# Altium footprint library DDS1.PcbLib: 136 footprints (part 5 of 9)
Each footprint in its own frame and in the unit in brackets; x right, y up, seen from the top. Pads: shape width x height; smd on the part's side, far side on the other; paste and mask are expansions set on the pad; w line width, h text height; cw(c..) or ccw(c..) is an arc to the next point about the centre after c.
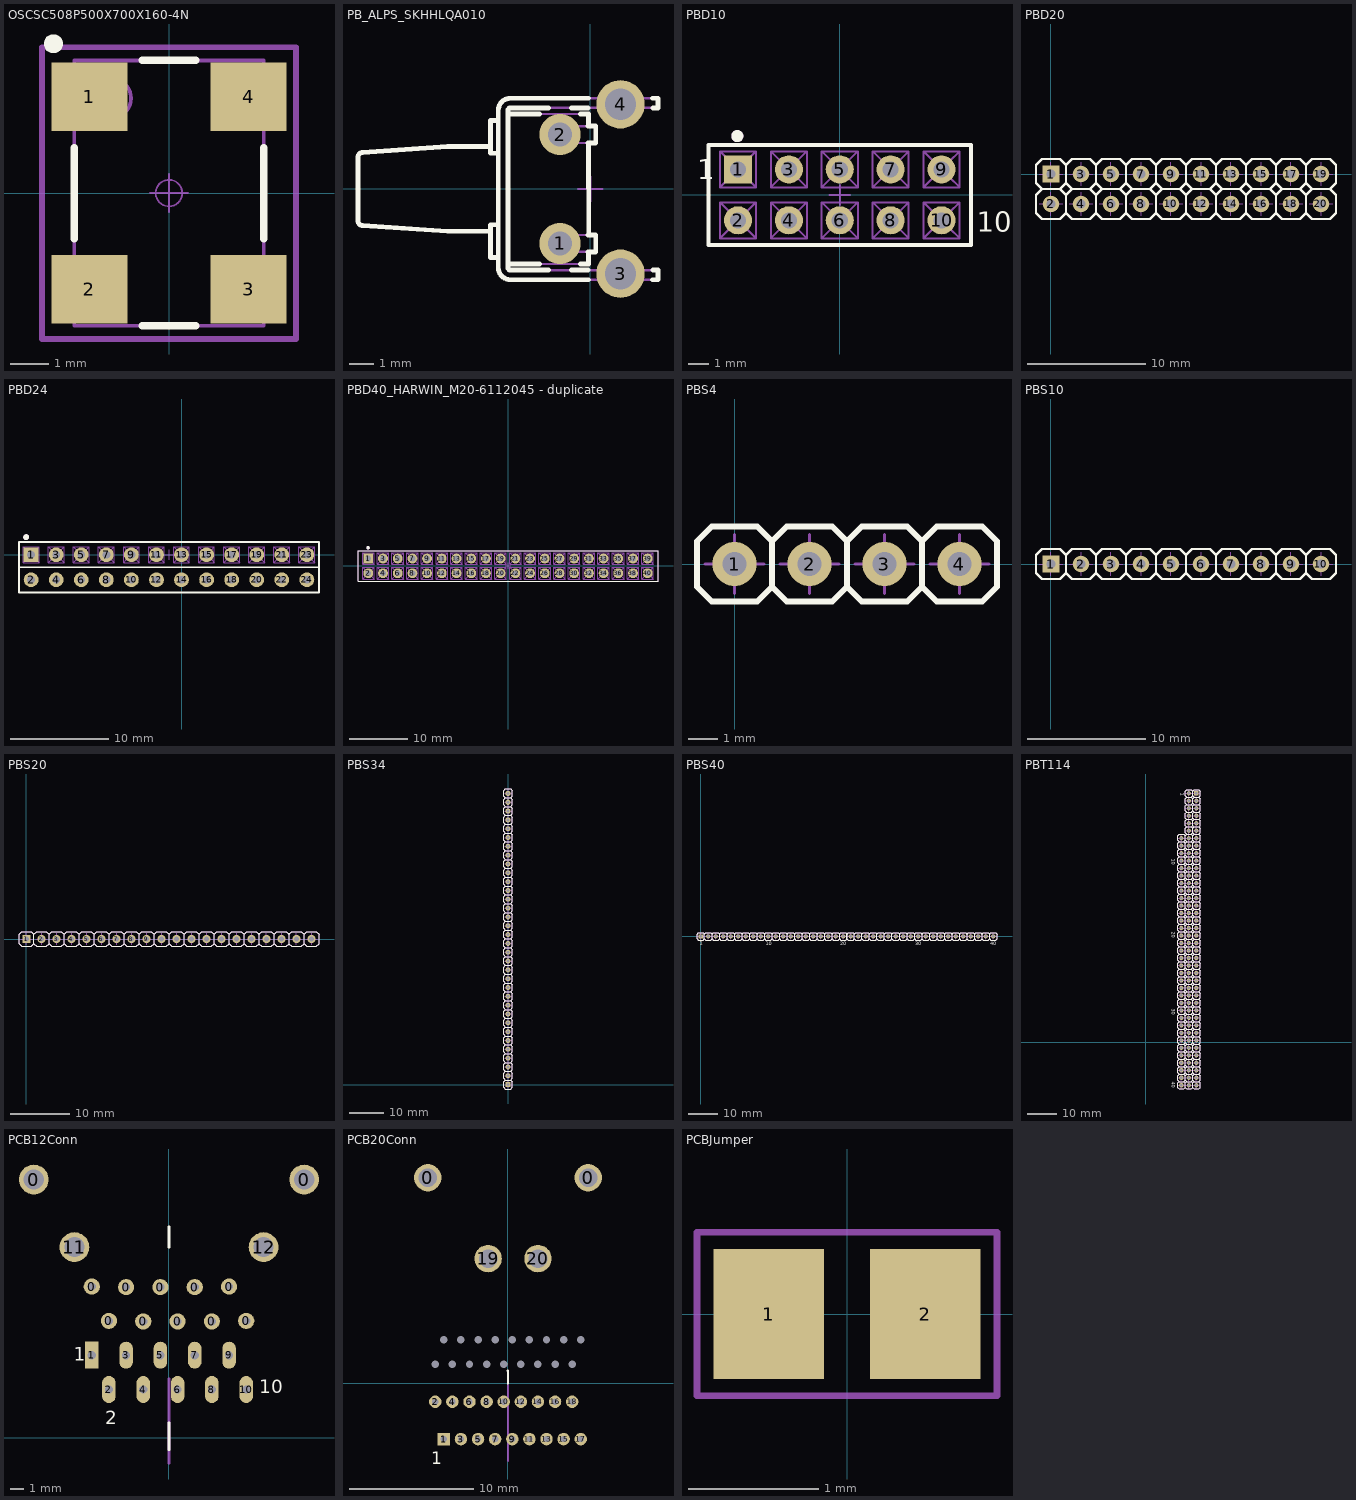
[diagram p4: the footprints below, top view; thin cyan lines are the x and y axes]

## OSCSC508P500X700X160-4N [mm] "SMD Oscillator, side convave, 4 pins, 5.00x7.00mm"
height 1.6
pads (4):
  rect 2x1.8 smd: 1(-2.1,2.54) 2(-2.1,-2.54) 3(2.1,-2.54) 4(2.1,2.54)
Top Overlay:
  circle w0.25: c-3.05,3.94 r0.125
  lines w0.2: -2.5,-1.2 -2.5,1.2 ; -0.7,-3.5 0.7,-3.5 ; -0.7,3.5 0.7,3.5 ; 2.5,-1.2 2.5,1.2
Mechanical 8:
  lines w0.15: -3.35,-3.85 3.35,-3.85 3.35,3.85 -3.35,3.85 -3.35,-3.85
  text ".Designator" at -2.875,-0.25 h1
Mechanical 14:
  circle w0.1: c-1.5,2.5 r0.5
  lines w0.1: -2.5,-3.5 2.5,-3.5 2.5,3.5 -2.5,3.5 -2.5,-3.5
Mechanical 15:
  circle w0.05: c0,0 r0.35
  lines w0.05: -0.5,0 0.5,0 ; 0,-0.5 0,0.5 ; -3.35,-3.85 3.35,-3.85 3.35,3.85 -3.35,3.85 -3.35,-3.85
3D body "OSCSC508P500X700X160-4N.stp": height 1.6, standoff 0, extent -2.6,-3.6 2.6,3.6

## PB_ALPS_SKHHLQA010 [mm] "Body 6x6mm, Stem height 8.35mm, Horizontal Pushbutton Switch, ALPS Serie SKHH"
height 7.4
pads (4):
  round 1.7 hole 1: 1(-1.25,-2.25) 2(-1.25,2.25)
  round 2 hole 1.3: 3(1.25,-3.5) 4(1.25,3.5)
Top Overlay:
  lines w0.2: -4.12,-1.748 -5.9,-1.748 -9.413,-1.513 cw(c-9.4,-1.313) -9.6,-1.313 -9.6,1.313 cw(c-9.4,1.313) -9.413,1.513 -5.9,1.75 -4.12,1.75 ; -3.8,-2.825 -4.12,-2.825 -4.12,-1.475 -3.8,-1.475 ; -3.8,1.475 -4.12,1.475 -4.12,2.825 -3.8,2.825 ; -3.4,-3.1 -2.097,-3.1 ; -3.4,3.1 -2.097,3.1 ; -1.73,-3.35 -3.3,-3.35 cw(c-3.3,-3.25) -3.4,-3.25 -3.4,3.25 cw(c-3.3,3.25) -3.3,3.35 -1.73,3.35 ; -0.77,-3.35 -0.092,-3.35 ; -0.77,3.35 -0.092,3.35 ; -0.403,-3.1 -0.07,-3.1 -0.07,-2.6 ; -0.403,3.1 -0.07,3.1 -0.07,2.6 ; -0.102,-2.6 0.23,-2.6 0.23,-1.9 -0.102,-1.9 ; -0.102,1.9 0.23,1.9 0.23,2.6 -0.102,2.6 ; -0.077,-3.75 -3.3,-3.75 cw(c-3.3,-3.25) -3.8,-3.25 -3.8,3.25 cw(c-3.3,3.25) -3.3,3.75 -0.077,3.75 ; -0.068,1.9 -0.06,-1.9 ; 2.577,-3.75 2.8,-3.75 2.8,-3.35 2.592,-3.35 ; 2.577,3.75 2.8,3.75 2.8,3.35 2.592,3.35
Mechanical 8:
  lines w0.1: -1.75,-2.25 -1.25,-2.25 ; -1.75,2.25 -1.25,2.25 ; -1.25,-2.75 -1.25,-2.25 ; -1.25,-1.75 -1.25,-2.25 ; -1.25,1.75 -1.25,2.25 ; -1.25,2.75 -1.25,2.25 ; -0.75,-2.25 -1.25,-2.25 ; -0.75,2.25 -1.25,2.25 ; -0.5,0 0,0 ; 0,-0.5 0,0 ; 0,0.5 0,0 ; 0.5,0 0,0 ; 0.75,-3.5 1.25,-3.5 ; 0.75,3.5 1.25,3.5 ; 1.25,-4 1.25,-3.5 ; 1.25,-3 1.25,-3.5 ; 1.25,3 1.25,3.5 ; 1.25,4 1.25,3.5 ; 1.75,-3.5 1.25,-3.5 ; 1.75,3.5 1.25,3.5
Mechanical 14:
  lines w0.1: -4.12,-1.748 -5.9,-1.748 -9.413,-1.513 cw(c-9.4,-1.313) -9.6,-1.313 -9.6,1.313 cw(c-9.4,1.313) -9.413,1.513 -5.9,1.75 -4.12,1.75 ; -3.8,-2.825 -4.12,-2.825 -4.12,-1.475 -3.8,-1.475 ; -3.8,1.475 -4.12,1.475 -4.12,2.825 -3.8,2.825 ; -3.4,-3.1 -0.07,-3.1 -0.07,-2.6 ; -3.4,3.1 -0.07,3.1 -0.07,2.6 ; -0.068,1.9 -0.06,-1.9 ; -3.8,-3.25 ccw(c-3.3,-3.25) -3.3,-3.75 2.8,-3.75 2.8,-3.35 -3.3,-3.35 cw(c-3.3,-3.25) -3.4,-3.25 -3.4,3.25 cw(c-3.3,3.25) -3.3,3.35 2.8,3.35 2.8,3.75 -3.3,3.75 ccw(c-3.3,3.25) -3.8,3.25 -3.8,-3.25 ; -1.4,-2.6 -1.396,-1.9 0.23,-1.9 0.23,-2.6 -1.4,-2.6 ; -1.4,2.6 0.23,2.6 0.23,1.9 -1.396,1.9 -1.4,2.6
3D body "PB_ALPS_SKHHLQA010.stp": height 7.4, standoff -3.5, extent -9.6,-4.249 2.8,4.249

## PBD10 [mm] "10 Contacts, Pitch 2.54mm - Top Entry, Dual Row, Through Mount Socket"
height 8.5
pads (10):
  rect 1.4x1.4 hole 0.8: 1(-5.08,1.27)
  round 1.4 hole 0.8: 2(-5.08,-1.27) 3(-2.54,1.27) 4(-2.54,-1.27) 5(0,1.27) 6(0,-1.27) 7(2.54,1.27) 8(2.54,-1.27) 9(5.08,1.27) 10(5.08,-1.27)
Top Overlay:
  circle w0.3: c-5.115,2.935 r0.15
  lines w0.2: -6.55,-2.5 6.55,-2.5 6.55,2.5 -6.55,2.5 -6.55,-2.5
  text "1" at -7.127,0.772 h1
  text "10" at 6.85,-1.85 h1
Mechanical 8:
  lines w0.1: -5.58,-1.27 -5.08,-1.27 ; -5.58,1.27 -5.08,1.27 ; -5.08,-1.77 -5.08,-1.27 ; -5.08,-0.77 -5.08,-1.27 ; -5.08,0.77 -5.08,1.27 ; -5.08,1.77 -5.08,1.27 ; -4.58,-1.27 -5.08,-1.27 ; -4.58,1.27 -5.08,1.27 ; -3.04,-1.27 -2.54,-1.27 ; -3.04,1.27 -2.54,1.27 ; -2.54,-1.77 -2.54,-1.27 ; -2.54,-0.77 -2.54,-1.27 ; -2.54,0.77 -2.54,1.27 ; -2.54,1.77 -2.54,1.27 ; -2.04,-1.27 -2.54,-1.27 ; -2.04,1.27 -2.54,1.27 ; -0.5,-1.27 0,-1.27 ; -0.5,0 0,0 ; -0.5,1.27 0,1.27 ; 0,-1.77 0,-1.27 ; 0,-0.77 0,-1.27 ; 0,-0.5 0,0 ; 0,0.5 0,0 ; 0,0.77 0,1.27 ; 0,1.77 0,1.27 ; 0.5,-1.27 0,-1.27 ; 0.5,0 0,0 ; 0.5,1.27 0,1.27 ; 2.04,-1.27 2.54,-1.27 ; 2.04,1.27 2.54,1.27 ; 2.54,-1.77 2.54,-1.27 ; 2.54,-0.77 2.54,-1.27 ; 2.54,0.77 2.54,1.27 ; 2.54,1.77 2.54,1.27 ; 3.04,-1.27 2.54,-1.27 ; 3.04,1.27 2.54,1.27 ; 4.58,-1.27 5.08,-1.27 ; 4.58,1.27 5.08,1.27 ; 5.08,-1.77 5.08,-1.27 ; 5.08,-0.77 5.08,-1.27 ; 5.08,0.77 5.08,1.27 ; 5.08,1.77 5.08,1.27 ; 5.58,-1.27 5.08,-1.27 ; 5.58,1.27 5.08,1.27
Mechanical 14:
  circle w0.3: c-5.115,2.935 r0.15
  lines w0.1: -5.48,-0.873 -5.98,-0.37 ; -5.48,1.667 -5.98,2.17 ; -2.94,-0.873 -3.44,-0.37 ; -2.94,1.667 -3.44,2.17 ; -0.4,-0.873 -0.9,-0.37 ; -0.4,1.667 -0.9,2.17 ; 2.14,-0.873 1.64,-0.37 ; 2.14,1.667 1.64,2.17 ; 4.68,-0.873 4.18,-0.37 ; 4.68,1.667 4.18,2.17 ; -5.98,-2.17 -5.48,-1.67 ; -5.98,-2.17 -4.18,-2.17 ; -5.98,-2.17 -5.98,-0.37 ; -5.98,-0.37 -4.18,-0.37 ; -5.98,0.37 -5.48,0.87 ; -5.98,0.37 -4.18,0.37 ; -5.98,0.37 -5.98,2.17 ; -5.98,2.17 -4.18,2.17 ; -5.48,-1.67 -5.48,-0.87 -4.68,-0.87 ; -5.48,-1.67 -4.68,-1.67 ; -5.48,0.87 -5.48,1.67 -4.68,1.67 ; -5.48,0.87 -4.68,0.87 ; -4.68,-1.67 -4.68,-0.87 ; -4.68,-1.67 -4.18,-2.17 ; -4.68,-0.87 -4.18,-0.37 ; -4.68,0.87 -4.68,1.67 ; -4.68,0.87 -4.18,0.37 ; -4.68,1.67 -4.18,2.17 ; -4.18,-2.17 -4.18,-0.37 ; -4.18,0.37 -4.18,2.17 ; -3.44,-2.17 -2.94,-1.67 ; -3.44,-2.17 -1.64,-2.17 ; -3.44,-2.17 -3.44,-0.37 ; -3.44,-0.37 -1.64,-0.37 ; -3.44,0.37 -2.94,0.87 ; -3.44,0.37 -1.64,0.37 ; -3.44,0.37 -3.44,2.17 ; -3.44,2.17 -1.64,2.17 ; -2.94,-1.67 -2.94,-0.87 -2.14,-0.87 ; -2.94,-1.67 -2.14,-1.67 ; -2.94,0.87 -2.94,1.67 -2.14,1.67 ; -2.94,0.87 -2.14,0.87 ; -2.14,-1.67 -2.14,-0.87 ; -2.14,-1.67 -1.64,-2.17 ; -2.14,-0.87 -1.64,-0.37 ; -2.14,0.87 -2.14,1.67 ; -2.14,0.87 -1.64,0.37 ; -2.14,1.67 -1.64,2.17 ; -1.64,-2.17 -1.64,-0.37 ; -1.64,0.37 -1.64,2.17 ; -0.9,-2.17 -0.4,-1.67 ; -0.9,-2.17 0.9,-2.17 ; -0.9,-2.17 -0.9,-0.37 ; -0.9,-0.37 0.9,-0.37 ; -0.9,0.37 -0.4,0.87 ; -0.9,0.37 0.9,0.37 ; -0.9,0.37 -0.9,2.17 ; -0.9,2.17 0.9,2.17 ; -0.4,-1.67 -0.4,-0.87 0.4,-0.87 ; -0.4,-1.67 0.4,-1.67 ; -0.4,0.87 -0.4,1.67 0.4,1.67 ; -0.4,0.87 0.4,0.87 ; 0.4,-1.67 0.4,-0.87 ; 0.4,-1.67 0.9,-2.17 ; 0.4,-0.87 0.9,-0.37 ; 0.4,0.87 0.4,1.67 ; 0.4,0.87 0.9,0.37 ; 0.4,1.67 0.9,2.17 ; 0.9,-2.17 0.9,-0.37 ; 0.9,0.37 0.9,2.17 ; 1.64,-2.17 2.14,-1.67 ; 1.64,-2.17 3.44,-2.17 ; 1.64,-2.17 1.64,-0.37 ; 1.64,-0.37 3.44,-0.37 ; 1.64,0.37 2.14,0.87 ; 1.64,0.37 3.44,0.37 ; 1.64,0.37 1.64,2.17 ; 1.64,2.17 3.44,2.17 ; 2.14,-1.67 2.14,-0.87 2.94,-0.87 ; 2.14,-1.67 2.94,-1.67 ; 2.14,0.87 2.14,1.67 2.94,1.67 ; 2.14,0.87 2.94,0.87 ; 2.94,-1.67 2.94,-0.87 ; 2.94,-1.67 3.44,-2.17 ; 2.94,-0.87 3.44,-0.37 ; 2.94,0.87 2.94,1.67 ; 2.94,0.87 3.44,0.37 ; 2.94,1.67 3.44,2.17 ; 3.44,-2.17 3.44,-0.37 ; 3.44,0.37 3.44,2.17 ; 4.18,-2.17 4.68,-1.67 ; 4.18,-2.17 5.98,-2.17 ; 4.18,-2.17 4.18,-0.37 ; 4.18,-0.37 5.98,-0.37 ; 4.18,0.37 4.68,0.87 ; 4.18,0.37 5.98,0.37 ; 4.18,0.37 4.18,2.17 ; 4.18,2.17 5.98,2.17 ; 4.68,-1.67 4.68,-0.87 5.48,-0.87 ; 4.68,-1.67 5.48,-1.67 ; 4.68,0.87 4.68,1.67 5.48,1.67 ; 4.68,0.87 5.48,0.87 ; 5.48,-1.67 5.48,-0.87 ; 5.48,-1.67 5.98,-2.17 ; 5.48,-0.87 5.98,-0.37 ; 5.48,0.87 5.48,1.67 ; 5.48,0.87 5.98,0.37 ; 5.48,1.67 5.98,2.17 ; 5.98,-2.17 5.98,-0.37 ; 5.98,0.37 5.98,2.17 ; -6.55,-2.5 6.55,-2.5 6.55,2.5 -6.55,2.5 -6.55,-2.5
  text "1" at -7.127,0.772 h1
  text "10" at 6.85,-1.85 h1
3D body "HARWIN_M20-7830546.stp": height 8.5, standoff -3, extent -6.55,-2.5 6.55,2.5

## PBD20 [mm] "10 Positions, Pitch 2.54mm, Width 2.54mm, Heigh 4.4mm, SIP Straight Socket"
height 4.4
pads (20):
  rect 1.4x1.4 hole 0.8: 1(0,0)
  round 1.4 hole 0.8: 2(0,-2.54) 3(2.54,0) 4(2.54,-2.54) 5(5.08,0) 6(5.08,-2.54) 7(7.62,0) 8(7.62,-2.54) 9(10.16,0) 10(10.16,-2.54) 11(12.7,0) 12(12.7,-2.54) 13(15.24,0) 14(15.24,-2.54) 15(17.78,0) 16(17.78,-2.54) 17(20.32,0) 18(20.32,-2.54) 19(22.86,0) 20(22.86,-2.54)
Top Overlay:
  lines w0.2: -0.77,-1.27 -1.27,-0.77 -1.27,0.77 -0.77,1.27 0.77,1.27 1.27,0.77 ; -0.77,-1.27 0.77,-1.27 ; -0.77,-1.27 -1.27,-1.77 -1.27,-3.31 -0.77,-3.81 0.77,-3.81 1.27,-3.31 ; -0.77,-1.27 0.77,-1.27 ; 0.77,-1.27 1.27,-0.77 ; 0.77,-1.27 1.27,-1.77 ; 1.27,-3.31 1.77,-3.81 3.31,-3.81 3.81,-3.31 ; 1.27,-3.31 1.27,-1.77 ; 1.27,-1.77 1.77,-1.27 ; 1.27,-0.77 1.27,0.77 ; 1.27,-0.77 1.77,-1.27 ; 1.27,0.77 1.77,1.27 3.31,1.27 3.81,0.77 ; 1.77,-1.27 3.31,-1.27 ; 1.77,-1.27 3.31,-1.27 ; 3.31,-1.27 3.81,-0.77 ; 3.31,-1.27 3.81,-1.77 ; 3.81,-3.31 4.31,-3.81 5.85,-3.81 6.35,-3.31 ; 3.81,-3.31 3.81,-1.77 ; 3.81,-1.77 4.31,-1.27 ; 3.81,-0.77 3.81,0.77 ; 3.81,-0.77 4.31,-1.27 ; 3.81,0.77 4.31,1.27 5.85,1.27 6.35,0.77 ; 4.31,-1.27 5.85,-1.27 ; 4.31,-1.27 5.85,-1.27 ; 5.85,-1.27 6.35,-0.77 ; 5.85,-1.27 6.35,-1.77 ; 6.35,-3.31 6.85,-3.81 8.39,-3.81 8.89,-3.31 ; 6.35,-3.31 6.35,-1.77 ; 6.35,-1.77 6.85,-1.27 ; 6.35,-0.77 6.35,0.77 ; 6.35,-0.77 6.85,-1.27 ; 6.35,0.77 6.85,1.27 8.39,1.27 8.89,0.77 ; 6.85,-1.27 8.39,-1.27 ; 6.85,-1.27 8.39,-1.27 ; 8.39,-1.27 8.89,-0.77 ; 8.39,-1.27 8.89,-1.77 ; 8.89,-3.31 9.39,-3.81 10.93,-3.81 11.43,-3.31 ; 8.89,-3.31 8.89,-1.77 ; 8.89,-1.77 9.39,-1.27 ; 8.89,-0.77 8.89,0.77 ; 8.89,-0.77 9.39,-1.27 ; 8.89,0.77 9.39,1.27 10.93,1.27 11.43,0.77 ; 9.39,-1.27 10.93,-1.27 ; 9.39,-1.27 10.93,-1.27 ; 10.93,-1.27 11.43,-0.77 ; 10.93,-1.27 11.43,-1.77 ; 11.43,-3.31 11.93,-3.81 13.47,-3.81 13.97,-3.31 ; 11.43,-3.31 11.43,-1.77 ; 11.43,-1.77 11.93,-1.27 ; 11.43,-0.77 11.43,0.77 ; 11.43,-0.77 11.93,-1.27 ; 11.43,0.77 11.93,1.27 13.47,1.27 13.97,0.77 ; 11.93,-1.27 13.47,-1.27 ; 11.93,-1.27 13.47,-1.27 ; 13.47,-1.27 13.97,-0.77 ; 13.47,-1.27 13.97,-1.77 ; 13.97,-3.31 14.47,-3.81 16.01,-3.81 16.51,-3.31 ; 13.97,-3.31 13.97,-1.77 ; 13.97,-1.77 14.47,-1.27 ; 13.97,-0.77 13.97,0.77 ; 13.97,-0.77 14.47,-1.27 ; 13.97,0.77 14.47,1.27 16.01,1.27 16.51,0.77 ; 14.47,-1.27 16.01,-1.27 ; 14.47,-1.27 16.01,-1.27 ; 16.01,-1.27 16.51,-0.77 ; 16.01,-1.27 16.51,-1.77 ; 16.51,-3.31 17.01,-3.81 18.55,-3.81 19.05,-3.31 ; 16.51,-3.31 16.51,-1.77 ; 16.51,-1.77 17.01,-1.27 ; 16.51,-0.77 16.51,0.77 ; 16.51,-0.77 17.01,-1.27 ; 16.51,0.77 17.01,1.27 18.55,1.27 19.05,0.77 ; 17.01,-1.27 18.55,-1.27 ; 17.01,-1.27 18.55,-1.27 ; 18.55,-1.27 19.05,-0.77 ; 18.55,-1.27 19.05,-1.77 ; 19.05,-3.31 19.55,-3.81 21.09,-3.81 21.59,-3.31 ; 19.05,-3.31 19.05,-1.77 ; 19.05,-1.77 19.55,-1.27 ; 19.05,-0.77 19.05,0.77 ; 19.05,-0.77 19.55,-1.27 ; 19.05,0.77 19.55,1.27 21.09,1.27 21.59,0.77 ; 19.55,-1.27 21.09,-1.27 ; 19.55,-1.27 21.09,-1.27 ; 21.09,-1.27 21.59,-0.77 ; 21.09,-1.27 21.59,-1.77 ; 21.59,-3.31 22.09,-3.81 23.63,-3.81 24.13,-3.31 24.13,-1.77 23.63,-1.27 ; 21.59,-3.31 21.59,-1.77 ; 21.59,-1.77 22.09,-1.27 ; 21.59,-0.77 21.59,0.77 ; 21.59,-0.77 22.09,-1.27 ; 21.59,0.77 22.09,1.27 23.63,1.27 24.13,0.77 24.13,-0.77 23.63,-1.27 ; 22.09,-1.27 23.63,-1.27 ; 22.09,-1.27 23.63,-1.27
Mechanical 8:
  lines w0.1: -1,-2.54 0,-2.54 ; -1,0 0,0 ; 0,-3.54 0,-2.54 ; 0,-1.54 0,-2.54 ; 0,-1 0,0 ; 0,1 0,0 ; 1,-2.54 0,-2.54 ; 1,0 0,0 ; 1.54,-2.54 2.54,-2.54 ; 1.54,0 2.54,0 ; 2.54,-3.54 2.54,-2.54 ; 2.54,-1.54 2.54,-2.54 ; 2.54,-1 2.54,0 ; 2.54,1 2.54,0 ; 3.54,-2.54 2.54,-2.54 ; 3.54,0 2.54,0 ; 4.08,-2.54 5.08,-2.54 ; 4.08,0 5.08,0 ; 5.08,-3.54 5.08,-2.54 ; 5.08,-1.54 5.08,-2.54 ; 5.08,-1 5.08,0 ; 5.08,1 5.08,0 ; 6.08,-2.54 5.08,-2.54 ; 6.08,0 5.08,0 ; 6.62,-2.54 7.62,-2.54 ; 6.62,0 7.62,0 ; 7.62,-3.54 7.62,-2.54 ; 7.62,-1.54 7.62,-2.54 ; 7.62,-1 7.62,0 ; 7.62,1 7.62,0 ; 8.62,-2.54 7.62,-2.54 ; 8.62,0 7.62,0 ; 9.16,-2.54 10.16,-2.54 ; 9.16,0 10.16,0 ; 10.16,-3.54 10.16,-2.54 ; 10.16,-1.54 10.16,-2.54 ; 10.16,-1 10.16,0 ; 10.16,1 10.16,0 ; 11.16,-2.54 10.16,-2.54 ; 11.16,0 10.16,0 ; 11.7,-2.54 12.7,-2.54 ; 11.7,0 12.7,0 ; 12.7,-3.54 12.7,-2.54 ; 12.7,-1.54 12.7,-2.54 ; 12.7,-1 12.7,0 ; 12.7,1 12.7,0 ; 13.7,-2.54 12.7,-2.54 ; 13.7,0 12.7,0 ; 14.24,-2.54 15.24,-2.54 ; 14.24,0 15.24,0 ; 15.24,-3.54 15.24,-2.54 ; 15.24,-1.54 15.24,-2.54 ; 15.24,-1 15.24,0 ; 15.24,1 15.24,0 ; 16.24,-2.54 15.24,-2.54 ; 16.24,0 15.24,0 ; 16.78,-2.54 17.78,-2.54 ; 16.78,0 17.78,0 ; 17.78,-3.54 17.78,-2.54 ; 17.78,-1.54 17.78,-2.54 ; 17.78,-1 17.78,0 ; 17.78,1 17.78,0 ; 18.78,-2.54 17.78,-2.54 ; 18.78,0 17.78,0 ; 19.32,-2.54 20.32,-2.54 ; 19.32,0 20.32,0 ; 20.32,-3.54 20.32,-2.54 ; 20.32,-1.54 20.32,-2.54 ; 20.32,-1 20.32,0 ; 20.32,1 20.32,0 ; 21.32,-2.54 20.32,-2.54 ; 21.32,0 20.32,0 ; 21.86,-2.54 22.86,-2.54 ; 21.86,0 22.86,0 ; 22.86,-3.54 22.86,-2.54 ; 22.86,-1.54 22.86,-2.54 ; 22.86,-1 22.86,0 ; 22.86,1 22.86,0 ; 23.86,-2.54 22.86,-2.54 ; 23.86,0 22.86,0
Mechanical 14:
  lines w0.1: -0.77,-1.27 -1.27,-0.77 -1.27,0.77 -0.77,1.27 0.77,1.27 1.27,0.77 ; -0.77,-1.27 0.77,-1.27 ; -0.77,-1.27 -1.27,-1.77 -1.27,-3.31 -0.77,-3.81 0.77,-3.81 1.27,-3.31 ; -0.77,-1.27 0.77,-1.27 ; 0.77,-1.27 1.27,-0.77 ; 0.77,-1.27 1.27,-1.77 ; 1.27,-3.31 1.77,-3.81 3.31,-3.81 3.81,-3.31 ; 1.27,-3.31 1.27,-1.77 ; 1.27,-1.77 1.77,-1.27 ; 1.27,-0.77 1.27,0.77 ; 1.27,-0.77 1.77,-1.27 ; 1.27,0.77 1.77,1.27 3.31,1.27 3.81,0.77 ; 1.77,-1.27 3.31,-1.27 ; 1.77,-1.27 3.31,-1.27 ; 3.31,-1.27 3.81,-0.77 ; 3.31,-1.27 3.81,-1.77 ; 3.81,-3.31 4.31,-3.81 5.85,-3.81 6.35,-3.31 ; 3.81,-3.31 3.81,-1.77 ; 3.81,-1.77 4.31,-1.27 ; 3.81,-0.77 3.81,0.77 ; 3.81,-0.77 4.31,-1.27 ; 3.81,0.77 4.31,1.27 5.85,1.27 6.35,0.77 ; 4.31,-1.27 5.85,-1.27 ; 4.31,-1.27 5.85,-1.27 ; 5.85,-1.27 6.35,-0.77 ; 5.85,-1.27 6.35,-1.77 ; 6.35,-3.31 6.85,-3.81 8.39,-3.81 8.89,-3.31 ; 6.35,-3.31 6.35,-1.77 ; 6.35,-1.77 6.85,-1.27 ; 6.35,-0.77 6.35,0.77 ; 6.35,-0.77 6.85,-1.27 ; 6.35,0.77 6.85,1.27 8.39,1.27 8.89,0.77 ; 6.85,-1.27 8.39,-1.27 ; 6.85,-1.27 8.39,-1.27 ; 8.39,-1.27 8.89,-0.77 ; 8.39,-1.27 8.89,-1.77 ; 8.89,-3.31 9.39,-3.81 10.93,-3.81 11.43,-3.31 ; 8.89,-3.31 8.89,-1.77 ; 8.89,-1.77 9.39,-1.27 ; 8.89,-0.77 8.89,0.77 ; 8.89,-0.77 9.39,-1.27 ; 8.89,0.77 9.39,1.27 10.93,1.27 11.43,0.77 ; 9.39,-1.27 10.93,-1.27 ; 9.39,-1.27 10.93,-1.27 ; 10.93,-1.27 11.43,-0.77 ; 10.93,-1.27 11.43,-1.77 ; 11.43,-3.31 11.93,-3.81 13.47,-3.81 13.97,-3.31 ; 11.43,-3.31 11.43,-1.77 ; 11.43,-1.77 11.93,-1.27 ; 11.43,-0.77 11.43,0.77 ; 11.43,-0.77 11.93,-1.27 ; 11.43,0.77 11.93,1.27 13.47,1.27 13.97,0.77 ; 11.93,-1.27 13.47,-1.27 ; 11.93,-1.27 13.47,-1.27 ; 13.47,-1.27 13.97,-0.77 ; 13.47,-1.27 13.97,-1.77 ; 13.97,-3.31 14.47,-3.81 16.01,-3.81 16.51,-3.31 ; 13.97,-3.31 13.97,-1.77 ; 13.97,-1.77 14.47,-1.27 ; 13.97,-0.77 13.97,0.77 ; 13.97,-0.77 14.47,-1.27 ; 13.97,0.77 14.47,1.27 16.01,1.27 16.51,0.77 ; 14.47,-1.27 16.01,-1.27 ; 14.47,-1.27 16.01,-1.27 ; 16.01,-1.27 16.51,-0.77 ; 16.01,-1.27 16.51,-1.77 ; 16.51,-3.31 17.01,-3.81 18.55,-3.81 19.05,-3.31 ; 16.51,-3.31 16.51,-1.77 ; 16.51,-1.77 17.01,-1.27 ; 16.51,-0.77 16.51,0.77 ; 16.51,-0.77 17.01,-1.27 ; 16.51,0.77 17.01,1.27 18.55,1.27 19.05,0.77 ; 17.01,-1.27 18.55,-1.27 ; 17.01,-1.27 18.55,-1.27 ; 18.55,-1.27 19.05,-0.77 ; 18.55,-1.27 19.05,-1.77 ; 19.05,-3.31 19.55,-3.81 21.09,-3.81 21.59,-3.31 ; 19.05,-3.31 19.05,-1.77 ; 19.05,-1.77 19.55,-1.27 ; 19.05,-0.77 19.05,0.77 ; 19.05,-0.77 19.55,-1.27 ; 19.05,0.77 19.55,1.27 21.09,1.27 21.59,0.77 ; 19.55,-1.27 21.09,-1.27 ; 19.55,-1.27 21.09,-1.27 ; 21.09,-1.27 21.59,-0.77 ; 21.09,-1.27 21.59,-1.77 ; 21.59,-3.31 22.09,-3.81 23.63,-3.81 24.13,-3.31 24.13,-1.77 23.63,-1.27 ; 21.59,-3.31 21.59,-1.77 ; 21.59,-1.77 22.09,-1.27 ; 21.59,-0.77 21.59,0.77 ; 21.59,-0.77 22.09,-1.27 ; 21.59,0.77 22.09,1.27 23.63,1.27 24.13,0.77 24.13,-0.77 23.63,-1.27 ; 22.09,-1.27 23.63,-1.27 ; 22.09,-1.27 23.63,-1.27
3D body "TYCO_1814655-7.stp": height 4.4, standoff -2.9, extent -1.27,-1.27 24.13,1.27
3D body "TYCO_1814655-7.stp": height 4.4, standoff -2.9, extent -1.27,-3.81 24.13,-1.27

## PBD24 [mm]
pads (24):
  rect 1.5x1.5 hole 0.8: 1(-15.24,0)
  round 1.5 hole 0.8: 2(-15.24,-2.54) 3(-12.7,0) 4(-12.7,-2.54) 5(-10.16,0) 6(-10.16,-2.54) 7(-7.62,0) 8(-7.62,-2.54) 9(-5.08,0) 10(-5.08,-2.54) 11(-2.54,0) 12(-2.54,-2.54) 13(0,0) 14(0,-2.54) 15(2.54,0) 16(2.54,-2.54) 17(5.08,0) 18(5.08,-2.54) 19(7.62,0) 20(7.62,-2.54) 21(10.16,0) 22(10.16,-2.54) 23(12.7,0) 24(12.7,-2.54)
Top Overlay:
  circle w0.3: c-15.748,1.778 r0.15
  lines w0.2: -16.47,-1.27 -16.47,-3.81 13.93,-3.81 13.93,-1.27 ; -16.47,-1.27 13.93,-1.27 ; -16.47,-1.27 13.93,-1.27 ; -16.47,-1.27 -16.47,1.27 13.93,1.27 13.93,-1.27
Mechanical 8:
  lines w0.1: -15.74,0 -15.24,0 ; -15.24,-0.5 -15.24,0 ; -15.24,0.5 -15.24,0 ; -14.74,0 -15.24,0 ; -13.2,0 -12.7,0 ; -12.7,-0.5 -12.7,0 ; -12.7,0.5 -12.7,0 ; -12.2,0 -12.7,0 ; -10.66,0 -10.16,0 ; -10.16,-0.5 -10.16,0 ; -10.16,0.5 -10.16,0 ; -9.66,0 -10.16,0 ; -8.12,0 -7.62,0 ; -7.62,-0.5 -7.62,0 ; -7.62,0.5 -7.62,0 ; -7.12,0 -7.62,0 ; -5.58,0 -5.08,0 ; -5.08,-0.5 -5.08,0 ; -5.08,0.5 -5.08,0 ; -4.58,0 -5.08,0 ; -3.04,0 -2.54,0 ; -2.54,-0.5 -2.54,0 ; -2.54,0.5 -2.54,0 ; -2.04,0 -2.54,0 ; -1.77,0 -1.27,0 ; -1.27,-0.5 -1.27,0 ; -1.27,0.5 -1.27,0 ; -0.77,0 -1.27,0 ; -0.5,0 0,0 ; 0,-0.5 0,0 ; 0,0.5 0,0 ; 0.5,0 0,0 ; 2.04,0 2.54,0 ; 2.54,-0.5 2.54,0 ; 2.54,0.5 2.54,0 ; 3.04,0 2.54,0 ; 4.58,0 5.08,0 ; 5.08,-0.5 5.08,0 ; 5.08,0.5 5.08,0 ; 5.58,0 5.08,0 ; 7.12,0 7.62,0 ; 7.62,-0.5 7.62,0 ; 7.62,0.5 7.62,0 ; 8.12,0 7.62,0 ; 9.66,0 10.16,0 ; 10.16,-0.5 10.16,0 ; 10.16,0.5 10.16,0 ; 10.66,0 10.16,0 ; 12.2,0 12.7,0 ; 12.7,-0.5 12.7,0 ; 12.7,0.5 12.7,0 ; 13.2,0 12.7,0
Mechanical 14:
  circle w0.3: c-15.748,1.778 r0.15
  lines w0.1: -16.04,-0.8 -14.44,-0.8 ; -16.04,-0.8 -16.04,0.8 ; -16.04,-0.8 -15.74,-0.5 ; -16.04,0.8 -14.44,0.8 ; -16.04,0.8 -15.74,0.5 ; -15.74,-0.5 -15.74,0.5 ; -15.74,-0.5 -14.74,-0.5 ; -15.74,0.5 -14.74,0.5 ; -14.74,-0.5 -14.44,-0.8 ; -14.74,-0.5 -14.74,0.5 ; -14.74,0.5 -14.44,0.8 ; -14.44,-0.8 -14.44,0.8 ; -13.5,-0.8 -11.9,-0.8 ; -13.5,-0.8 -13.5,0.8 ; -13.5,-0.8 -13.2,-0.5 ; -13.5,0.8 -11.9,0.8 ; -13.5,0.8 -13.2,0.5 ; -13.2,-0.5 -13.2,0.5 ; -13.2,-0.5 -12.2,-0.5 ; -13.2,0.5 -12.2,0.5 ; -12.2,-0.5 -11.9,-0.8 ; -12.2,-0.5 -12.2,0.5 ; -12.2,0.5 -11.9,0.8 ; -11.9,-0.8 -11.9,0.8 ; -10.96,-0.8 -9.36,-0.8 ; -10.96,-0.8 -10.96,0.8 ; -10.96,-0.8 -10.66,-0.5 ; -10.96,0.8 -9.36,0.8 ; -10.96,0.8 -10.66,0.5 ; -10.66,-0.5 -10.66,0.5 ; -10.66,-0.5 -9.66,-0.5 ; -10.66,0.5 -9.66,0.5 ; -9.66,-0.5 -9.36,-0.8 ; -9.66,-0.5 -9.66,0.5 ; -9.66,0.5 -9.36,0.8 ; -9.36,-0.8 -9.36,0.8 ; -8.42,-0.8 -6.82,-0.8 ; -8.42,-0.8 -8.42,0.8 ; -8.42,-0.8 -8.12,-0.5 ; -8.42,0.8 -6.82,0.8 ; -8.42,0.8 -8.12,0.5 ; -8.12,-0.5 -8.12,0.5 ; -8.12,-0.5 -7.12,-0.5 ; -8.12,0.5 -7.12,0.5 ; -7.12,-0.5 -6.82,-0.8 ; -7.12,-0.5 -7.12,0.5 ; -7.12,0.5 -6.82,0.8 ; -6.82,-0.8 -6.82,0.8 ; -5.88,-0.8 -4.28,-0.8 ; -5.88,-0.8 -5.88,0.8 ; -5.88,-0.8 -5.58,-0.5 ; -5.88,0.8 -4.28,0.8 ; -5.88,0.8 -5.58,0.5 ; -5.58,-0.5 -5.58,0.5 ; -5.58,-0.5 -4.58,-0.5 ; -5.58,0.5 -4.58,0.5 ; -4.58,-0.5 -4.28,-0.8 ; -4.58,-0.5 -4.58,0.5 ; -4.58,0.5 -4.28,0.8 ; -4.28,-0.8 -4.28,0.8 ; -3.34,-0.8 -1.74,-0.8 ; -3.34,-0.8 -3.34,0.8 ; -3.34,-0.8 -3.04,-0.5 ; -3.34,0.8 -1.74,0.8 ; -3.34,0.8 -3.04,0.5 ; -3.04,-0.5 -3.04,0.5 ; -3.04,-0.5 -2.04,-0.5 ; -3.04,0.5 -2.04,0.5 ; -2.04,-0.5 -1.74,-0.8 ; -2.04,-0.5 -2.04,0.5 ; -2.04,0.5 -1.74,0.8 ; -1.74,-0.8 -1.74,0.8 ; -0.8,-0.8 0.8,-0.8 ; -0.8,-0.8 -0.8,0.8 ; -0.8,-0.8 -0.5,-0.5 ; -0.8,0.8 0.8,0.8 ; -0.8,0.8 -0.5,0.5 ; -0.5,-0.5 -0.5,0.5 ; -0.5,-0.5 0.5,-0.5 ; -0.5,0.5 0.5,0.5 ; 0.5,-0.5 0.8,-0.8 ; 0.5,-0.5 0.5,0.5 ; 0.5,0.5 0.8,0.8 ; 0.8,-0.8 0.8,0.8 ; 1.74,-0.8 3.34,-0.8 ; 1.74,-0.8 1.74,0.8 ; 1.74,-0.8 2.04,-0.5 ; 1.74,0.8 3.34,0.8 ; 1.74,0.8 2.04,0.5 ; 2.04,-0.5 2.04,0.5 ; 2.04,-0.5 3.04,-0.5 ; 2.04,0.5 3.04,0.5 ; 3.04,-0.5 3.34,-0.8 ; 3.04,-0.5 3.04,0.5 ; 3.04,0.5 3.34,0.8 ; 3.34,-0.8 3.34,0.8 ; 4.28,-0.8 5.88,-0.8 ; 4.28,-0.8 4.28,0.8 ; 4.28,-0.8 4.58,-0.5 ; 4.28,0.8 5.88,0.8 ; 4.28,0.8 4.58,0.5 ; 4.58,-0.5 4.58,0.5 ; 4.58,-0.5 5.58,-0.5 ; 4.58,0.5 5.58,0.5 ; 5.58,-0.5 5.88,-0.8 ; 5.58,-0.5 5.58,0.5 ; 5.58,0.5 5.88,0.8 ; 5.88,-0.8 5.88,0.8 ; 6.82,-0.8 8.42,-0.8 ; 6.82,-0.8 6.82,0.8 ; 6.82,-0.8 7.12,-0.5 ; 6.82,0.8 8.42,0.8 ; 6.82,0.8 7.12,0.5 ; 7.12,-0.5 7.12,0.5 ; 7.12,-0.5 8.12,-0.5 ; 7.12,0.5 8.12,0.5 ; 8.12,-0.5 8.42,-0.8 ; 8.12,-0.5 8.12,0.5 ; 8.12,0.5 8.42,0.8 ; 8.42,-0.8 8.42,0.8 ; 9.36,-0.8 10.96,-0.8 ; 9.36,-0.8 9.36,0.8 ; 9.36,-0.8 9.66,-0.5 ; 9.36,0.8 10.96,0.8 ; 9.36,0.8 9.66,0.5 ; 9.66,-0.5 9.66,0.5 ; 9.66,-0.5 10.66,-0.5 ; 9.66,0.5 10.66,0.5 ; 10.66,-0.5 10.96,-0.8 ; 10.66,-0.5 10.66,0.5 ; 10.66,0.5 10.96,0.8 ; 10.96,-0.8 10.96,0.8 ; 11.9,-0.8 13.5,-0.8 ; 11.9,-0.8 11.9,0.8 ; 11.9,-0.8 12.2,-0.5 ; 11.9,0.8 13.5,0.8 ; 11.9,0.8 12.2,0.5 ; 12.2,-0.5 12.2,0.5 ; 12.2,-0.5 13.2,-0.5 ; 12.2,0.5 13.2,0.5 ; 13.2,-0.5 13.5,-0.8 ; 13.2,-0.5 13.2,0.5 ; 13.2,0.5 13.5,0.8 ; 13.5,-0.8 13.5,0.8 ; -16.47,-1.27 -16.47,1.27 13.93,1.27 13.93,-1.27 -16.47,-1.27
3D body "FCI_76341-312LF.stp": height 7, standoff -2.96, extent -16.47,-3.81 13.93,-1.27
3D body "FCI_76341-312LF.stp": height 7, standoff -2.96, extent -16.47,-1.27 13.93,1.27

## PBD40_HARWIN_M20-6112045 - duplicate [mm] "40 Ways, Dual Row, 2.54mm Pitch, PC/104 Non-Stackthrough Connector"
height 11.05
pads (40):
  rect 1.7x1.7 hole 1: 1(-24.13,1.27)
  round 1.7 hole 1: 2(-24.13,-1.27) 3(-21.59,1.27) 4(-21.59,-1.27) 5(-19.05,1.27) 6(-19.05,-1.27) 7(-16.51,1.27) 8(-16.51,-1.27) 9(-13.97,1.27) 10(-13.97,-1.27) 11(-11.43,1.27) 12(-11.43,-1.27) 13(-8.89,1.27) 14(-8.89,-1.27) 15(-6.35,1.27) 16(-6.35,-1.27) 17(-3.81,1.27) 18(-3.81,-1.27) 19(-1.27,1.27) 20(-1.27,-1.27) 21(1.27,1.27) 22(1.27,-1.27) 23(3.81,1.27) 24(3.81,-1.27) 25(6.35,1.27) 26(6.35,-1.27) 27(8.89,1.27) 28(8.89,-1.27) 29(11.43,1.27) 30(11.43,-1.27) 31(13.97,1.27) 32(13.97,-1.27) 33(16.51,1.27) 34(16.51,-1.27) 35(19.05,1.27) 36(19.05,-1.27) 37(21.59,1.27) 38(21.59,-1.27) 39(24.13,1.27) 40(24.13,-1.27)
Top Overlay:
  circle w0.3: c-24.175,3.125 r0.15
  lines w0.2: -25.91,-2.625 25.91,-2.625 25.91,2.625 -25.91,2.625 -25.91,-2.625
Mechanical 8:
  drawing of 164 lines, arcs and shapes, not listed
Mechanical 14:
  drawing of 485 lines, arcs and shapes, not listed
3D body "HARWIN_M20-6112045.stp": height 11.05, standoff -2.29, extent -25.91,-2.625 25.91,2.625

## PBS4 [mm] "4 Positions, Pitch 2.54mm, Width 2.54mm, Heigh 4.4mm, SIP Straight Socket"
height 4.4
pads (4):
  round 1.5 hole 0.8: 1(0,0) 2(2.54,0) 3(5.08,0) 4(7.62,0)
Top Overlay:
  lines w0.2: 1.27,-0.77 0.77,-1.27 -0.77,-1.27 -1.27,-0.77 -1.27,0.77 -0.77,1.27 0.77,1.27 1.27,0.77 ; 1.27,-0.77 1.77,-1.27 3.31,-1.27 3.81,-0.77 ; 1.27,-0.77 1.27,0.77 ; 1.27,0.77 1.77,1.27 3.31,1.27 3.81,0.77 ; 3.81,-0.77 4.31,-1.27 5.85,-1.27 6.35,-0.77 ; 3.81,-0.77 3.81,0.77 ; 3.81,0.77 4.31,1.27 5.85,1.27 6.35,0.77 ; 6.35,-0.77 6.85,-1.27 8.39,-1.27 8.89,-0.77 8.89,0.77 8.39,1.27 6.85,1.27 6.35,0.77 ; 6.35,-0.77 6.35,0.77
Mechanical 8:
  lines w0.1: -1,0 0,0 ; 0,-1 0,0 ; 0,1 0,0 ; 1,0 0,0 ; 1.54,0 2.54,0 ; 2.54,-1 2.54,0 ; 2.54,1 2.54,0 ; 3.54,0 2.54,0 ; 4.08,0 5.08,0 ; 5.08,-1 5.08,0 ; 5.08,1 5.08,0 ; 6.08,0 5.08,0 ; 6.62,0 7.62,0 ; 7.62,-1 7.62,0 ; 7.62,1 7.62,0 ; 8.62,0 7.62,0
Mechanical 14:
  lines w0.1: 1.27,-0.77 0.77,-1.27 -0.77,-1.27 -1.27,-0.77 -1.27,0.77 -0.77,1.27 0.77,1.27 1.27,0.77 ; 1.27,-0.77 1.77,-1.27 3.31,-1.27 3.81,-0.77 ; 1.27,-0.77 1.27,0.77 ; 1.27,0.77 1.77,1.27 3.31,1.27 3.81,0.77 ; 3.81,-0.77 4.31,-1.27 5.85,-1.27 6.35,-0.77 ; 3.81,-0.77 3.81,0.77 ; 3.81,0.77 4.31,1.27 5.85,1.27 6.35,0.77 ; 6.35,-0.77 6.85,-1.27 8.39,-1.27 8.89,-0.77 8.89,0.77 8.39,1.27 6.85,1.27 6.35,0.77 ; 6.35,-0.77 6.35,0.77
3D body "TYCO_1814655-3.stp": height 4.4, standoff -2.9, extent -1.27,-1.27 8.89,1.27

## PBS10 [mm] "10 Positions, Pitch 2.54mm, Width 2.54mm, Heigh 4.4mm, SIP Straight Socket"
height 4.4
pads (10):
  rect 1.4x1.4 hole 0.8: 1(0,0)
  round 1.4 hole 0.8: 2(2.54,0) 3(5.08,0) 4(7.62,0) 5(10.16,0) 6(12.7,0) 7(15.24,0) 8(17.78,0) 9(20.32,0) 10(22.86,0)
Top Overlay:
  lines w0.2: 1.27,-0.77 1.27,0.77 ; 1.27,-0.77 1.77,-1.27 3.31,-1.27 3.81,-0.77 ; 1.27,-0.77 0.77,-1.27 -0.77,-1.27 -1.27,-0.77 -1.27,0.77 -0.77,1.27 0.77,1.27 1.27,0.77 ; 1.27,0.77 1.77,1.27 3.31,1.27 3.81,0.77 ; 3.81,-0.77 3.81,0.77 ; 3.81,-0.77 4.31,-1.27 5.85,-1.27 6.35,-0.77 ; 3.81,0.77 4.31,1.27 5.85,1.27 6.35,0.77 ; 6.35,-0.77 6.35,0.77 ; 6.35,-0.77 6.85,-1.27 8.39,-1.27 8.89,-0.77 ; 6.35,0.77 6.85,1.27 8.39,1.27 8.89,0.77 ; 8.89,-0.77 8.89,0.77 ; 8.89,-0.77 9.39,-1.27 10.93,-1.27 11.43,-0.77 ; 8.89,0.77 9.39,1.27 10.93,1.27 11.43,0.77 ; 11.43,-0.77 11.43,0.77 ; 11.43,-0.77 11.93,-1.27 13.47,-1.27 13.97,-0.77 ; 11.43,0.77 11.93,1.27 13.47,1.27 13.97,0.77 ; 13.97,-0.77 13.97,0.77 ; 13.97,-0.77 14.47,-1.27 16.01,-1.27 16.51,-0.77 ; 13.97,0.77 14.47,1.27 16.01,1.27 16.51,0.77 ; 16.51,-0.77 16.51,0.77 ; 16.51,-0.77 17.01,-1.27 18.55,-1.27 19.05,-0.77 ; 16.51,0.77 17.01,1.27 18.55,1.27 19.05,0.77 ; 19.05,-0.77 19.05,0.77 ; 19.05,-0.77 19.55,-1.27 21.09,-1.27 21.59,-0.77 ; 19.05,0.77 19.55,1.27 21.09,1.27 21.59,0.77 ; 21.59,-0.77 21.59,0.77 ; 21.59,-0.77 22.09,-1.27 23.63,-1.27 24.13,-0.77 24.13,0.77 23.63,1.27 22.09,1.27 21.59,0.77
Mechanical 8:
  lines w0.1: -1,0 0,0 ; 0,-1 0,0 ; 0,1 0,0 ; 1,0 0,0 ; 1.54,0 2.54,0 ; 2.54,-1 2.54,0 ; 2.54,1 2.54,0 ; 3.54,0 2.54,0 ; 4.08,0 5.08,0 ; 5.08,-1 5.08,0 ; 5.08,1 5.08,0 ; 6.08,0 5.08,0 ; 6.62,0 7.62,0 ; 7.62,-1 7.62,0 ; 7.62,1 7.62,0 ; 8.62,0 7.62,0 ; 9.16,0 10.16,0 ; 10.16,-1 10.16,0 ; 10.16,1 10.16,0 ; 11.16,0 10.16,0 ; 11.7,0 12.7,0 ; 12.7,-1 12.7,0 ; 12.7,1 12.7,0 ; 13.7,0 12.7,0 ; 14.24,0 15.24,0 ; 15.24,-1 15.24,0 ; 15.24,1 15.24,0 ; 16.24,0 15.24,0 ; 16.78,0 17.78,0 ; 17.78,-1 17.78,0 ; 17.78,1 17.78,0 ; 18.78,0 17.78,0 ; 19.32,0 20.32,0 ; 20.32,-1 20.32,0 ; 20.32,1 20.32,0 ; 21.32,0 20.32,0 ; 21.86,0 22.86,0 ; 22.86,-1 22.86,0 ; 22.86,1 22.86,0 ; 23.86,0 22.86,0
Mechanical 14:
  lines w0.1: 1.27,-0.77 1.27,0.77 ; 1.27,-0.77 1.77,-1.27 3.31,-1.27 3.81,-0.77 ; 1.27,-0.77 0.77,-1.27 -0.77,-1.27 -1.27,-0.77 -1.27,0.77 -0.77,1.27 0.77,1.27 1.27,0.77 ; 1.27,0.77 1.77,1.27 3.31,1.27 3.81,0.77 ; 3.81,-0.77 3.81,0.77 ; 3.81,-0.77 4.31,-1.27 5.85,-1.27 6.35,-0.77 ; 3.81,0.77 4.31,1.27 5.85,1.27 6.35,0.77 ; 6.35,-0.77 6.35,0.77 ; 6.35,-0.77 6.85,-1.27 8.39,-1.27 8.89,-0.77 ; 6.35,0.77 6.85,1.27 8.39,1.27 8.89,0.77 ; 8.89,-0.77 8.89,0.77 ; 8.89,-0.77 9.39,-1.27 10.93,-1.27 11.43,-0.77 ; 8.89,0.77 9.39,1.27 10.93,1.27 11.43,0.77 ; 11.43,-0.77 11.43,0.77 ; 11.43,-0.77 11.93,-1.27 13.47,-1.27 13.97,-0.77 ; 11.43,0.77 11.93,1.27 13.47,1.27 13.97,0.77 ; 13.97,-0.77 13.97,0.77 ; 13.97,-0.77 14.47,-1.27 16.01,-1.27 16.51,-0.77 ; 13.97,0.77 14.47,1.27 16.01,1.27 16.51,0.77 ; 16.51,-0.77 16.51,0.77 ; 16.51,-0.77 17.01,-1.27 18.55,-1.27 19.05,-0.77 ; 16.51,0.77 17.01,1.27 18.55,1.27 19.05,0.77 ; 19.05,-0.77 19.05,0.77 ; 19.05,-0.77 19.55,-1.27 21.09,-1.27 21.59,-0.77 ; 19.05,0.77 19.55,1.27 21.09,1.27 21.59,0.77 ; 21.59,-0.77 21.59,0.77 ; 21.59,-0.77 22.09,-1.27 23.63,-1.27 24.13,-0.77 24.13,0.77 23.63,1.27 22.09,1.27 21.59,0.77
3D body "TYCO_1814655-7.stp": height 4.4, standoff -2.9, extent -1.27,-1.27 24.13,1.27

## PBS20 [mm] "20 Positions, Pitch 2.54mm, Width 2.54mm, Heigh 4.4mm, SIP Straight Socket"
height 4.4
pads (20):
  rect 1.4x1.4 hole 0.8: 1(0,0)
  round 1.4 hole 0.8: 2(2.54,0) 3(5.08,0) 4(7.62,0) 5(10.16,0) 6(12.7,0) 7(15.24,0) 8(17.78,0) 9(20.32,0) 10(22.86,0) 11(25.4,0) 12(27.94,0) 13(30.48,0) 14(33.02,0) 15(35.56,0) 16(38.1,0) 17(40.64,0) 18(43.18,0) 19(45.72,0) 20(48.26,0)
Top Overlay:
  lines w0.2: 1.27,-0.77 1.27,0.77 ; 1.27,-0.77 1.77,-1.27 3.31,-1.27 3.81,-0.77 ; 1.27,-0.77 0.77,-1.27 -0.77,-1.27 -1.27,-0.77 -1.27,0.77 -0.77,1.27 0.77,1.27 1.27,0.77 ; 1.27,0.77 1.77,1.27 3.31,1.27 3.81,0.77 ; 3.81,-0.77 3.81,0.77 ; 3.81,-0.77 4.31,-1.27 5.85,-1.27 6.35,-0.77 ; 3.81,0.77 4.31,1.27 5.85,1.27 6.35,0.77 ; 6.35,-0.77 6.35,0.77 ; 6.35,-0.77 6.85,-1.27 8.39,-1.27 8.89,-0.77 ; 6.35,0.77 6.85,1.27 8.39,1.27 8.89,0.77 ; 8.89,-0.77 8.89,0.77 ; 8.89,-0.77 9.39,-1.27 10.93,-1.27 11.43,-0.77 ; 8.89,0.77 9.39,1.27 10.93,1.27 11.43,0.77 ; 11.43,-0.77 11.43,0.77 ; 11.43,-0.77 11.93,-1.27 13.47,-1.27 13.97,-0.77 ; 11.43,0.77 11.93,1.27 13.47,1.27 13.97,0.77 ; 13.97,-0.77 13.97,0.77 ; 13.97,-0.77 14.47,-1.27 16.01,-1.27 16.51,-0.77 ; 13.97,0.77 14.47,1.27 16.01,1.27 16.51,0.77 ; 16.51,-0.77 16.51,0.77 ; 16.51,-0.77 17.01,-1.27 18.55,-1.27 19.05,-0.77 ; 16.51,0.77 17.01,1.27 18.55,1.27 19.05,0.77 ; 19.05,-0.77 19.05,0.77 ; 19.05,-0.77 19.55,-1.27 21.09,-1.27 21.59,-0.77 ; 19.05,0.77 19.55,1.27 21.09,1.27 21.59,0.77 ; 21.59,-0.77 21.59,0.77 ; 21.59,-0.77 22.09,-1.27 23.63,-1.27 24.13,-0.77 ; 21.59,0.77 22.09,1.27 23.63,1.27 24.13,0.77 ; 24.13,-0.77 24.13,0.77 ; 24.13,-0.77 24.63,-1.27 26.17,-1.27 26.67,-0.77 ; 24.13,0.77 24.63,1.27 26.17,1.27 26.67,0.77 ; 26.67,-0.77 27.17,-1.27 28.71,-1.27 29.21,-0.77 ; 26.67,-0.77 26.67,0.77 ; 26.67,0.77 27.17,1.27 28.71,1.27 29.21,0.77 ; 29.21,-0.77 29.71,-1.27 31.25,-1.27 31.75,-0.77 ; 29.21,-0.77 29.21,0.77 ; 29.21,0.77 29.71,1.27 31.25,1.27 31.75,0.77 ; 31.75,-0.77 32.25,-1.27 33.79,-1.27 34.29,-0.77 ; 31.75,-0.77 31.75,0.77 ; 31.75,0.77 32.25,1.27 33.79,1.27 34.29,0.77 ; 34.29,-0.77 34.29,0.77 ; 34.29,-0.77 34.79,-1.27 36.33,-1.27 36.83,-0.77 ; 34.29,0.77 34.79,1.27 36.33,1.27 36.83,0.77 ; 36.83,-0.77 36.83,0.77 ; 36.83,-0.77 37.33,-1.27 38.87,-1.27 39.37,-0.77 ; 36.83,0.77 37.33,1.27 38.87,1.27 39.37,0.77 ; 39.37,-0.77 39.87,-1.27 41.41,-1.27 41.91,-0.77 ; 39.37,-0.77 39.37,0.77 ; 39.37,0.77 39.87,1.27 41.41,1.27 41.91,0.77 ; 41.91,-0.77 41.91,0.77 ; 41.91,-0.77 42.41,-1.27 43.95,-1.27 44.45,-0.77 ; 41.91,0.77 42.41,1.27 43.95,1.27 44.45,0.77 ; 44.45,-0.77 44.95,-1.27 46.49,-1.27 46.99,-0.77 ; 44.45,-0.77 44.45,0.77 ; 44.45,0.77 44.95,1.27 46.49,1.27 46.99,0.77 ; 46.99,-0.77 47.49,-1.27 49.03,-1.27 49.53,-0.77 49.53,0.77 49.03,1.27 47.49,1.27 46.99,0.77 ; 46.99,-0.77 46.99,0.77
Mechanical 8:
  lines w0.1: -1,0 0,0 ; 0,-1 0,0 ; 0,1 0,0 ; 1,0 0,0 ; 1.54,0 2.54,0 ; 2.54,-1 2.54,0 ; 2.54,1 2.54,0 ; 3.54,0 2.54,0 ; 4.08,0 5.08,0 ; 5.08,-1 5.08,0 ; 5.08,1 5.08,0 ; 6.08,0 5.08,0 ; 6.62,0 7.62,0 ; 7.62,-1 7.62,0 ; 7.62,1 7.62,0 ; 8.62,0 7.62,0 ; 9.16,0 10.16,0 ; 10.16,-1 10.16,0 ; 10.16,1 10.16,0 ; 11.16,0 10.16,0 ; 11.7,0 12.7,0 ; 12.7,-1 12.7,0 ; 12.7,1 12.7,0 ; 13.7,0 12.7,0 ; 14.24,0 15.24,0 ; 15.24,-1 15.24,0 ; 15.24,1 15.24,0 ; 16.24,0 15.24,0 ; 16.78,0 17.78,0 ; 17.78,-1 17.78,0 ; 17.78,1 17.78,0 ; 18.78,0 17.78,0 ; 19.32,0 20.32,0 ; 20.32,-1 20.32,0 ; 20.32,1 20.32,0 ; 21.32,0 20.32,0 ; 21.86,0 22.86,0 ; 22.86,-1 22.86,0 ; 22.86,1 22.86,0 ; 23.86,0 22.86,0 ; 24.4,0 25.4,0 ; 25.4,-1 25.4,0 ; 25.4,1 25.4,0 ; 26.4,0 25.4,0 ; 26.94,0 27.94,0 ; 27.94,-1 27.94,0 ; 27.94,1 27.94,0 ; 28.94,0 27.94,0 ; 29.48,0 30.48,0 ; 30.48,-1 30.48,0 ; 30.48,1 30.48,0 ; 31.48,0 30.48,0 ; 32.02,0 33.02,0 ; 33.02,-1 33.02,0 ; 33.02,1 33.02,0 ; 34.02,0 33.02,0 ; 34.56,0 35.56,0 ; 35.56,-1 35.56,0 ; 35.56,1 35.56,0 ; 36.56,0 35.56,0 ; 37.1,0 38.1,0 ; 38.1,-1 38.1,0 ; 38.1,1 38.1,0 ; 39.1,0 38.1,0 ; 39.64,0 40.64,0 ; 40.64,-1 40.64,0 ; 40.64,1 40.64,0 ; 41.64,0 40.64,0 ; 42.18,0 43.18,0 ; 43.18,-1 43.18,0 ; 43.18,1 43.18,0 ; 44.18,0 43.18,0 ; 44.72,0 45.72,0 ; 45.72,-1 45.72,0 ; 45.72,1 45.72,0 ; 46.72,0 45.72,0 ; 47.26,0 48.26,0 ; 48.26,-1 48.26,0 ; 48.26,1 48.26,0 ; 49.26,0 48.26,0
Mechanical 14:
  lines w0.1: 1.27,-0.77 1.27,0.77 ; 1.27,-0.77 1.77,-1.27 3.31,-1.27 3.81,-0.77 ; 1.27,-0.77 0.77,-1.27 -0.77,-1.27 -1.27,-0.77 -1.27,0.77 -0.77,1.27 0.77,1.27 1.27,0.77 ; 1.27,0.77 1.77,1.27 3.31,1.27 3.81,0.77 ; 3.81,-0.77 3.81,0.77 ; 3.81,-0.77 4.31,-1.27 5.85,-1.27 6.35,-0.77 ; 3.81,0.77 4.31,1.27 5.85,1.27 6.35,0.77 ; 6.35,-0.77 6.35,0.77 ; 6.35,-0.77 6.85,-1.27 8.39,-1.27 8.89,-0.77 ; 6.35,0.77 6.85,1.27 8.39,1.27 8.89,0.77 ; 8.89,-0.77 8.89,0.77 ; 8.89,-0.77 9.39,-1.27 10.93,-1.27 11.43,-0.77 ; 8.89,0.77 9.39,1.27 10.93,1.27 11.43,0.77 ; 11.43,-0.77 11.43,0.77 ; 11.43,-0.77 11.93,-1.27 13.47,-1.27 13.97,-0.77 ; 11.43,0.77 11.93,1.27 13.47,1.27 13.97,0.77 ; 13.97,-0.77 13.97,0.77 ; 13.97,-0.77 14.47,-1.27 16.01,-1.27 16.51,-0.77 ; 13.97,0.77 14.47,1.27 16.01,1.27 16.51,0.77 ; 16.51,-0.77 16.51,0.77 ; 16.51,-0.77 17.01,-1.27 18.55,-1.27 19.05,-0.77 ; 16.51,0.77 17.01,1.27 18.55,1.27 19.05,0.77 ; 19.05,-0.77 19.05,0.77 ; 19.05,-0.77 19.55,-1.27 21.09,-1.27 21.59,-0.77 ; 19.05,0.77 19.55,1.27 21.09,1.27 21.59,0.77 ; 21.59,-0.77 21.59,0.77 ; 21.59,-0.77 22.09,-1.27 23.63,-1.27 24.13,-0.77 ; 21.59,0.77 22.09,1.27 23.63,1.27 24.13,0.77 ; 24.13,-0.77 24.13,0.77 ; 24.13,-0.77 24.63,-1.27 26.17,-1.27 26.67,-0.77 ; 24.13,0.77 24.63,1.27 26.17,1.27 26.67,0.77 ; 26.67,-0.77 27.17,-1.27 28.71,-1.27 29.21,-0.77 ; 26.67,-0.77 26.67,0.77 ; 26.67,0.77 27.17,1.27 28.71,1.27 29.21,0.77 ; 29.21,-0.77 29.71,-1.27 31.25,-1.27 31.75,-0.77 ; 29.21,-0.77 29.21,0.77 ; 29.21,0.77 29.71,1.27 31.25,1.27 31.75,0.77 ; 31.75,-0.77 32.25,-1.27 33.79,-1.27 34.29,-0.77 ; 31.75,-0.77 31.75,0.77 ; 31.75,0.77 32.25,1.27 33.79,1.27 34.29,0.77 ; 34.29,-0.77 34.29,0.77 ; 34.29,-0.77 34.79,-1.27 36.33,-1.27 36.83,-0.77 ; 34.29,0.77 34.79,1.27 36.33,1.27 36.83,0.77 ; 36.83,-0.77 36.83,0.77 ; 36.83,-0.77 37.33,-1.27 38.87,-1.27 39.37,-0.77 ; 36.83,0.77 37.33,1.27 38.87,1.27 39.37,0.77 ; 39.37,-0.77 39.87,-1.27 41.41,-1.27 41.91,-0.77 ; 39.37,-0.77 39.37,0.77 ; 39.37,0.77 39.87,1.27 41.41,1.27 41.91,0.77 ; 41.91,-0.77 41.91,0.77 ; 41.91,-0.77 42.41,-1.27 43.95,-1.27 44.45,-0.77 ; 41.91,0.77 42.41,1.27 43.95,1.27 44.45,0.77 ; 44.45,-0.77 44.95,-1.27 46.49,-1.27 46.99,-0.77 ; 44.45,-0.77 44.45,0.77 ; 44.45,0.77 44.95,1.27 46.49,1.27 46.99,0.77 ; 46.99,-0.77 47.49,-1.27 49.03,-1.27 49.53,-0.77 49.53,0.77 49.03,1.27 47.49,1.27 46.99,0.77 ; 46.99,-0.77 46.99,0.77
3D body "TYCO_1-1814655-5.stp": height 4.4, standoff -2.9, extent -1.27,-1.27 49.53,1.27

## PBS34 [mm] "4 Positions, Pitch 2.54mm, Width 2.54mm, Heigh 4.4mm, SIP Straight Socket"
height 4.4
pads (34):
  rect 1.4x1.4 hole 0.8: 1(0,0)
  round 1.4 hole 0.8: 2(0,2.54) 3(0,5.08) 4(0,7.62) 5(0,10.16) 6(0,12.7) 7(0,15.24) 8(0,17.78) 9(0,20.32) 10(0,22.86) 11(0,25.4) 12(0,27.94) 13(0,30.48) 14(0,33.02) 15(0,35.56) 16(0,38.1) 17(0,40.64) 18(0,43.18) 19(0,45.72) 20(0,48.26) 21(0,50.8) 22(0,53.34) 23(0,55.88) 24(0,58.42) 25(0,60.96) 26(0,63.5) 27(0,66.04) 28(0,68.58) 29(0,71.12) 30(0,73.66)
  round 1.5 hole 0.8: 31(0,76.2) 32(0,78.74) 33(0,81.28) 34(0,83.82)
Top Overlay:
  drawing of 241 lines, arcs and shapes, not listed
Mechanical 8:
  lines w0.1: -1,0 0,0 ; -1,2.54 0,2.54 ; -1,5.08 0,5.08 ; -1,7.62 0,7.62 ; -1,10.16 0,10.16 ; -1,12.7 0,12.7 ; -1,15.24 0,15.24 ; -1,17.78 0,17.78 ; -1,20.32 0,20.32 ; -1,22.86 0,22.86 ; -1,25.4 0,25.4 ; -1,27.94 0,27.94 ; -1,30.48 0,30.48 ; -1,33.02 0,33.02 ; -1,35.56 0,35.56 ; -1,38.1 0,38.1 ; -1,40.64 0,40.64 ; -1,43.18 0,43.18 ; -1,45.72 0,45.72 ; -1,48.26 0,48.26 ; -1,50.8 0,50.8 ; -1,53.34 0,53.34 ; -1,55.88 0,55.88 ; -1,58.42 0,58.42 ; -1,60.96 0,60.96 ; -1,63.5 0,63.5 ; -1,66.04 0,66.04 ; -1,68.58 0,68.58 ; -1,71.12 0,71.12 ; -1,73.66 0,73.66 ; -1,76.2 0,76.2 ; -1,78.74 0,78.74 ; -1,81.28 0,81.28 ; -1,83.82 0,83.82 ; 0,-1 0,0 ; 0,1 0,0 ; 0,1.54 0,2.54 ; 0,3.54 0,2.54 ; 0,4.08 0,5.08 ; 0,6.08 0,5.08 ; 0,6.62 0,7.62 ; 0,8.62 0,7.62 ; 0,9.16 0,10.16 ; 0,11.16 0,10.16 ; 0,11.7 0,12.7 ; 0,13.7 0,12.7 ; 0,14.24 0,15.24 ; 0,16.24 0,15.24 ; 0,16.78 0,17.78 ; 0,18.78 0,17.78 ; 0,19.32 0,20.32 ; 0,21.32 0,20.32 ; 0,21.86 0,22.86 ; 0,23.86 0,22.86 ; 0,24.4 0,25.4 ; 0,26.4 0,25.4 ; 0,26.94 0,27.94 ; 0,28.94 0,27.94 ; 0,29.48 0,30.48 ; 0,31.48 0,30.48 ; 0,32.02 0,33.02 ; 0,34.02 0,33.02 ; 0,34.56 0,35.56 ; 0,36.56 0,35.56 ; 0,37.1 0,38.1 ; 0,39.1 0,38.1 ; 0,39.64 0,40.64 ; 0,41.64 0,40.64 ; 0,42.18 0,43.18 ; 0,44.18 0,43.18 ; 0,44.72 0,45.72 ; 0,46.72 0,45.72 ; 0,47.26 0,48.26 ; 0,49.26 0,48.26 ; 0,49.8 0,50.8 ; 0,51.8 0,50.8 ; 0,52.34 0,53.34 ; 0,54.34 0,53.34 ; 0,54.88 0,55.88 ; 0,56.88 0,55.88 ; 0,57.42 0,58.42 ; 0,59.42 0,58.42 ; 0,59.96 0,60.96 ; 0,61.96 0,60.96 ; 0,62.5 0,63.5 ; 0,64.5 0,63.5 ; 0,65.04 0,66.04 ; 0,67.04 0,66.04 ; 0,67.58 0,68.58 ; 0,69.58 0,68.58 ; 0,70.12 0,71.12 ; 0,72.12 0,71.12 ; 0,72.66 0,73.66 ; 0,74.66 0,73.66 ; 0,75.2 0,76.2 ; 0,77.2 0,76.2 ; 0,77.74 0,78.74 ; 0,79.74 0,78.74 ; 0,80.28 0,81.28 ; 0,82.28 0,81.28 ; 0,82.82 0,83.82 ; 0,84.82 0,83.82 ; 1,0 0,0 ; 1,2.54 0,2.54 ; 1,5.08 0,5.08 ; 1,7.62 0,7.62 ; 1,10.16 0,10.16 ; 1,12.7 0,12.7 ; 1,15.24 0,15.24 ; 1,17.78 0,17.78 ; 1,20.32 0,20.32 ; 1,22.86 0,22.86 ; 1,25.4 0,25.4 ; 1,27.94 0,27.94 ; 1,30.48 0,30.48 ; 1,33.02 0,33.02 ; 1,35.56 0,35.56 ; 1,38.1 0,38.1 ; 1,40.64 0,40.64 ; 1,43.18 0,43.18 ; 1,45.72 0,45.72 ; 1,48.26 0,48.26 ; 1,50.8 0,50.8 ; 1,53.34 0,53.34 ; 1,55.88 0,55.88 ; 1,58.42 0,58.42 ; 1,60.96 0,60.96 ; 1,63.5 0,63.5 ; 1,66.04 0,66.04 ; 1,68.58 0,68.58 ; 1,71.12 0,71.12 ; 1,73.66 0,73.66 ; 1,76.2 0,76.2 ; 1,78.74 0,78.74 ; 1,81.28 0,81.28 ; 1,83.82 0,83.82
Mechanical 14:
  drawing of 241 lines, arcs and shapes, not listed
3D body "TYCO_1814655-3.stp": height 4.4, standoff -2.9, extent -1.27,74.93 1.27,85.09
3D body "TYCO_1814655-7.stp": height 4.4, standoff -2.9, extent -1.27,49.53 1.27,74.93
3D body "TYCO_1-1814655-5.stp": height 4.4, standoff -2.9, extent -1.27,-1.27 1.27,49.53

## PBS40 [mm] "20 Positions, Pitch 2.54mm, Width 2.54mm, Heigh 4.4mm, SIP Straight Socket"
height 4.4
pads (40):
  rect 1.4x1.4 hole 0.8: 1(0,0)
  round 1.4 hole 0.8: 2(2.54,0) 3(5.08,0) 4(7.62,0) 5(10.16,0) 6(12.7,0) 7(15.24,0) 8(17.78,0) 9(20.32,0) 10(22.86,0) 11(25.4,0) 12(27.94,0) 13(30.48,0) 14(33.02,0) 15(35.56,0) 16(38.1,0) 17(40.64,0) 18(43.18,0) 19(45.72,0) 20(48.26,0) 21(50.8,0) 22(53.34,0) 23(55.88,0) 24(58.42,0) 25(60.96,0) 26(63.5,0) 27(66.04,0) 28(68.58,0) 29(71.12,0) 30(73.66,0) 31(76.2,0) 32(78.74,0) 33(81.28,0) 34(83.82,0) 35(86.36,0) 36(88.9,0) 37(91.44,0) 38(93.98,0) 39(96.52,0) 40(99.06,0)
Top Overlay:
  drawing of 282 lines, arcs and shapes, not listed
  text "1" at -0.254,-2.794 h1.2
  text "10" at 22.098,-3.048 h1.2
  text "20" at 47.244,-3.048 h1.2
  text "30" at 72.644,-3.048 h1.2
  text "40" at 98.044,-3.048 h1.2
Bottom Overlay:
  text "40" at 100.076,2.032 h1.2
  text "30" at 74.676,2.032 h1.2
  text "20" at 49.276,2.032 h1.2
  text "10" at 23.876,1.778 h1.2
  text "1" at -0.254,2.032 h1.2
Mechanical 8:
  drawing of 160 lines, arcs and shapes, not listed
Mechanical 14:
  drawing of 282 lines, arcs and shapes, not listed
3D body "TYCO_1-1814655-5.stp": height 4.4, standoff -2.9, extent 49.53,-1.27 100.33,1.27
3D body "TYCO_1-1814655-5.stp": height 4.4, standoff -2.9, extent -1.27,-1.27 49.53,1.27

## PBT114 [mm] "4 Positions, Pitch 2.54mm, Width 2.54mm, Heigh 4.4mm, SIP Straight Socket"
height 4.4
pads (114):
  rect 1.4x1.4 hole 0.8: 1(17.145,84.455)
  round 1.4 hole 0.8: 2(17.145,81.915) 3(17.145,79.375) 4(17.145,76.835) 5(17.145,74.295) 6(17.145,71.755) 7(17.145,69.215) 8(17.145,66.675) 9(17.145,64.135) 10(17.145,61.595) 11(17.145,59.055) 12(17.145,56.515) 13(17.145,53.975) 14(17.145,51.435) 15(17.145,48.895) 16(17.145,46.355) 17(17.145,43.815) 18(17.145,41.275) 19(17.145,38.735) 20(17.145,36.195) 21(17.145,33.655) 22(17.145,31.115) 23(17.145,28.575) 24(17.145,26.035) 25(17.145,23.495) 26(17.145,20.955) 27(17.145,18.415) 28(17.145,15.875) 29(17.145,13.335) 30(17.145,10.795) 31(17.145,8.255) 32(17.145,5.715) 33(17.145,3.175) 34(17.145,0.635) 35(17.145,-1.905) 36(17.145,-4.445) 37(17.145,-6.985) 38(17.145,-9.525) 39(17.145,-12.065) 40(17.145,-14.605) 41(14.605,84.455) 42(14.605,81.915) 43(14.605,79.375) 44(14.605,76.835) 45(14.605,74.295) 46(14.605,71.755) 47(14.605,69.215) 48(14.605,66.675) 49(14.605,64.135) 50(14.605,61.595) 51(14.605,59.055) 52(14.605,56.515) 53(14.605,53.975) 54(14.605,51.435) 55(14.605,48.895) 56(14.605,46.355) 57(14.605,43.815) 58(14.605,41.275) 59(14.605,38.735) 60(14.605,36.195) 61(14.605,33.655) 62(14.605,31.115) 63(14.605,28.575) 64(14.605,26.035) 65(14.605,23.495) 66(14.605,20.955) 67(14.605,18.415) 68(14.605,15.875) 69(14.605,13.335) 70(14.605,10.795) 71(14.605,8.255) 72(14.605,5.715) 73(14.605,3.175) 74(14.605,0.635) 75(14.605,-1.905) 76(14.605,-4.445) 77(14.605,-6.985) 78(14.605,-9.525) 79(14.605,-12.065) 80(14.605,-14.605) 81(12.065,69.215) 82(12.065,66.675) 83(12.065,64.135) 84(12.065,61.595) 85(12.065,59.055) 86(12.065,56.515) 87(12.065,53.975) 88(12.065,51.435) 89(12.065,48.895) 90(12.065,46.355) 91(12.065,43.815) 92(12.065,41.275) 93(12.065,38.735) 94(12.065,36.195) 95(12.065,33.655) 96(12.065,31.115) 97(12.065,28.575) 98(12.065,26.035) 99(12.065,23.495) 100(12.065,20.955) 101(12.065,18.415) 102(12.065,15.875) 103(12.065,13.335) 104(12.065,10.795) 105(12.065,8.255) 106(12.065,5.715) 107(12.065,3.175) 108(12.065,0.635) 109(12.065,-1.905) 110(12.065,-4.445)
  round 1.5 hole 0.8: 111(12.065,-6.985) 112(12.065,-9.525) 113(12.065,-12.065) 114(12.065,-14.605)
Top Overlay:
  drawing of 805 lines, arcs and shapes, not listed
  text "20" at 8.89,37.465 h1.2
  text "1" at 11.811,84.709 h1.2
  text "10" at 8.89,62.23 h1.2
  text "30" at 8.89,11.43 h1.2
  text "40" at 8.89,-13.335 h1.2
Bottom Overlay:
  text "1" at 19.177,84.709 h1.2
  text "10" at 18.923,60.579 h1.2
  text "20" at 19.177,35.179 h1.2
  text "30" at 19.177,9.779 h1.2
  text "40" at 19.177,-15.621 h1.2
  text "20" at 16.637,35.179 h1.2
Mechanical 8:
  drawing of 456 lines, arcs and shapes, not listed
Mechanical 14:
  drawing of 805 lines, arcs and shapes, not listed
3D body "TYCO_1-1814655-5.stp": height 4.4, standoff -2.9, extent 15.875,34.925 18.415,85.725
3D body "TYCO_1-1814655-5.stp": height 4.4, standoff -2.9, extent 15.875,-15.875 18.415,34.925
3D body "TYCO_1-1814655-5.stp": height 4.4, standoff -2.9, extent 10.795,19.685 13.335,70.485
3D body "TYCO_1814655-7.stp": height 4.4, standoff -2.9, extent 10.795,-5.715 13.335,19.685
3D body "TYCO_1814655-3.stp": height 4.4, standoff -2.9, extent 10.795,-15.875 13.335,-5.715
3D body "TYCO_1-1814655-5.stp": height 4.4, standoff -2.9, extent 13.335,-15.875 15.875,34.925
3D body "TYCO_1-1814655-5.stp": height 4.4, standoff -2.9, extent 13.335,34.925 15.875,85.725

## PCB12Conn [mm] "3M, 3000 Series, 24 Contacts - Pitch 2.54mm - Straight Four-Wall Header (Black) With Short Roll Pin Latch/Ejectors"
height 24.6
pads (24):
  round 2.2 hole 1.5: 0(-10,19.1) 0(10,19.1) 11(-7,14.1) 12(7,14.1)
  round 1.2 hole 0.6 unplated: 0(-5.715,11.18) 0(-4.445,8.64) 0(-3.175,11.14) 0(-1.905,8.6) 0(-0.635,11.14) 0(0.635,8.6) 0(1.905,11.14) 0(3.175,8.6) 0(4.445,11.18) 0(5.715,8.64)
  rect 1x2 hole 0.6: 1(-5.715,6.1)
  oval 1x2 hole 0.6: 2(-4.445,3.56) 3(-3.175,6.1) 4(-1.905,3.56) 5(-0.635,6.1) 6(0.635,3.56) 7(1.905,6.1) 8(3.175,3.56) 9(4.445,6.1) 10(5.715,3.56)
Top Overlay:
  lines w0.2: 0,-0.9 0,-0.4 0,0.6 0,1.1 ; 0,14.1 0,14.6 0,15.6
  text "1" at -7.035,5.7 h1
  text "10" at 6.665,3.3 h1
  text "2" at -4.735,1 h1
Mechanical 18:
  lines w0.2: 0,-1.9 0,4.356

## PCB20Conn [mm] "3M, 3000 Series, 24 Contacts - Pitch 2.54mm - Straight Four-Wall Header (Black) With Short Roll Pin Latch/Ejectors"
height 24.6
pads (40):
  round 2.2 hole 1.5: 0(-6.444,16.5) 0(6.444,16.5) 19(-1.594,10) 20(2.406,10)
  round 0 hole 0.6 unplated: 0(-5.844,1.5) 0(-5.156,3.5) 0(-4.469,1.5) 0(-3.781,3.5) 0(-3.094,1.5) 0(-2.406,3.5) 0(-1.719,1.5) 0(-1.031,3.5) 0(-0.344,1.5) 0(0.344,3.5) 0(1.031,1.5) 0(1.719,3.5) 0(2.406,1.5) 0(3.094,3.5) 0(3.781,1.5) 0(4.469,3.5) 0(5.156,1.5) 0(5.844,3.5)
  rect 1x1 hole 0.5: 1(-5.156,-4.5)
  round 1 hole 0.5: 2(-5.844,-1.5) 3(-3.781,-4.5) 4(-4.469,-1.5) 5(-2.406,-4.5) 6(-3.094,-1.5) 7(-1.031,-4.5) 8(-1.719,-1.5) 9(0.344,-4.5) 10(-0.344,-1.5) 11(1.719,-4.5) 12(1.031,-1.5) 13(3.094,-4.5) 14(2.406,-1.5) 15(4.469,-4.5) 16(3.781,-1.5) 17(5.844,-4.5) 18(5.156,-1.5)
Top Overlay:
  lines w0.2: -0.006,0.975 0,0.981 0,0
  text "1" at -6.156,-6.5 h1
Mechanical 18:
  lines w0.2: 0,-6.256 0,0

## PCBComponent_1 [mm]

## PCBJumper [mm]
pads (2):
  rect 0.85x1 smd: 1(-0.6,0) 2(0.6,0)
Mechanical 14:
  lines w0.1: -0.8,-0.405 -0.8,0.405 ; 0.8,-0.405 0.8,0.405
Mechanical 15:
  lines w0.05: -1.15,-0.625 -1.15,0.625 1.15,0.625 1.15,-0.625 -1.15,-0.625